# EAGLE library part WM8523 (library ds_ic_peripherals)
24-bit 192kHz Stereo DAC with 2Vrms Ground Referenced Line Output
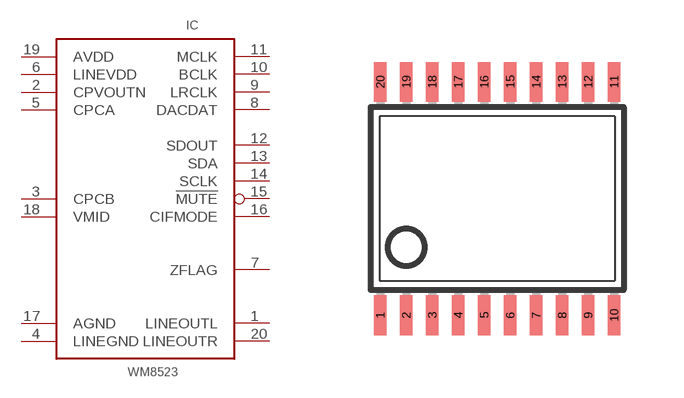
[diagram p50: symbol with the pads of TSSOP20; footprint TSSOP20]

Designator prefix IC

## WM8523  [TSSOP20]
1  LINEOUTL
2  CPVOUTN
3  CPCB
4  LINEGND  pwr
5  CPCA
6  LINEVDD  pwr
7  ZFLAG
8  DACDAT
9  LRCLK
10  BCLK
11  MCLK
12  SDOUT
13  SDA
14  SCLK
15  !MUTE
16  CIFMODE
17  AGND  pwr
18  VMID
19  AVDD  pwr
20  LINEOUTR

## Footprint TSSOP20 (pad centres in mm)
Thin Shrink Small Outline Plastic 20 MAX3223-MAX3243.pdf
smd 0.305 x 0.991: 1 -2.925,-2.918; 2 -2.275,-2.918; 3 -1.625,-2.918; 4 -0.975,-2.918; 5 -0.325,-2.918; 6 0.325,-2.918; 7 0.975,-2.918; 8 1.625,-2.918; 9 2.275,-2.918; 10 2.925,-2.918; 11 2.925,2.918; 12 2.275,2.918; 13 1.625,2.918; 14 0.975,2.918; 15 0.325,2.918; 16 -0.325,2.918; 17 -0.975,2.918; 18 -1.625,2.918; 19 -2.275,2.918; 20 -2.925,2.918